# EAGLE library part ACPL-C87X (library PP_AnalogIC)
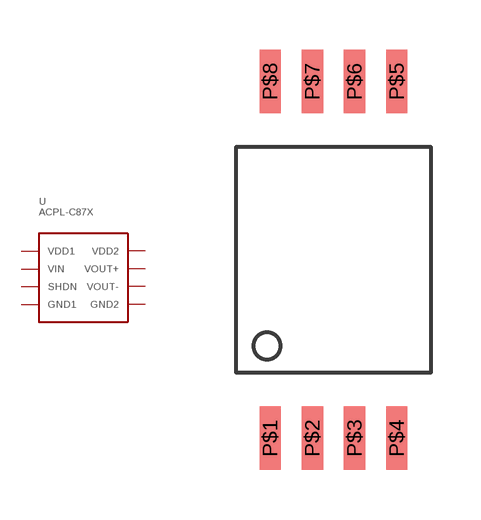
[diagram p7: symbol with the pads of ACPL-C87_SSO-8; footprint ACPL-C87_SSO-8]

Designator prefix U

## ACPL-C87X (POPULATE: 1)  [ACPL-C87_SSO-8]
P$1  VDD1
P$2  VIN
P$3  SHDN
P$4  GND1
P$5  GND2
P$6  VOUT-
P$7  VOUT+
P$8  VDD2

## Footprint ACPL-C87_SSO-8 (pad centres in mm)
smd 0.64 x 1.905: P$1 -1.905,-5.372; P$2 -0.635,-5.372; P$3 0.635,-5.372; P$4 1.905,-5.372; P$5 1.905,5.372; P$6 0.635,5.372; P$7 -0.635,5.372; P$8 -1.905,5.372